# Altium footprint library I0603 - MURATA.PcbLib: 1 footprints
Each footprint in its own frame and in the unit in brackets; x right, y up, seen from the top. Pads: shape width x height; smd on the part's side, far side on the other; paste and mask are expansions set on the pad; w line width, h text height; cw(c..) or ccw(c..) is an arc to the next point about the centre after c.
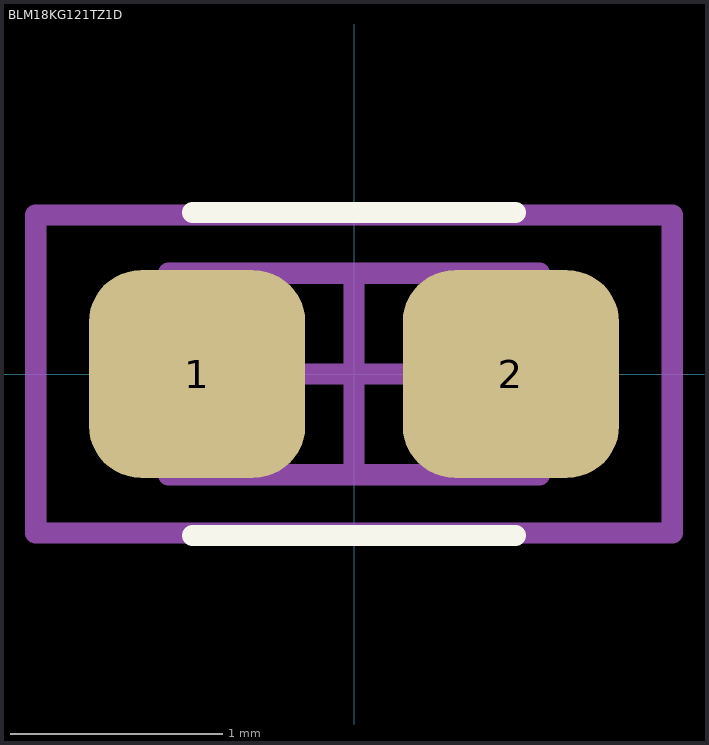
[diagram p0: the footprint, top view; thin cyan lines are the x and y axes]

## BLM18KG121TZ1D [mm] "Chip Inductor, 2-Leads, Body 1,60x0,80mm, IPC Medium Density"
height 0.75
pads (2):
  rrect50% 1.02x0.98 smd: 1(-0.74,0) 2(0.74,0)
Top Overlay:
  lines w0.1: -0.762,-0.762 0.762,-0.762 ; -0.762,0.762 0.762,0.762
Top Designator:
  text ".Designator" at -1.25,-1.226 h0.25
Mechanical 13:
  lines w0.1: -0.875,-0.475 -0.875,0.475 0.875,0.475 0.875,-0.475 -0.875,-0.475
Mechanical 15:
  lines w0.1: -0.475,0 0.475,0 ; 0,-0.475 0,0.475 ; -1.5,-0.75 -1.5,0.75 1.5,0.75 1.5,-0.75 -1.5,-0.75
3D body "BLM18KG121TZ1D.step": height 0.75, standoff 0, extent -0.875,-0.475 0.875,0.475